# Altium footprint library pedals-capacitors-elec.PCBLIB: 24 footprints (part 2 of 2)
Each footprint in its own frame and in the unit in brackets; x right, y up, seen from the top. Pads: shape width x height; smd on the part's side, far side on the other; paste and mask are expansions set on the pad; w line width, h text height; cw(c..) or ccw(c..) is an arc to the next point about the centre after c.
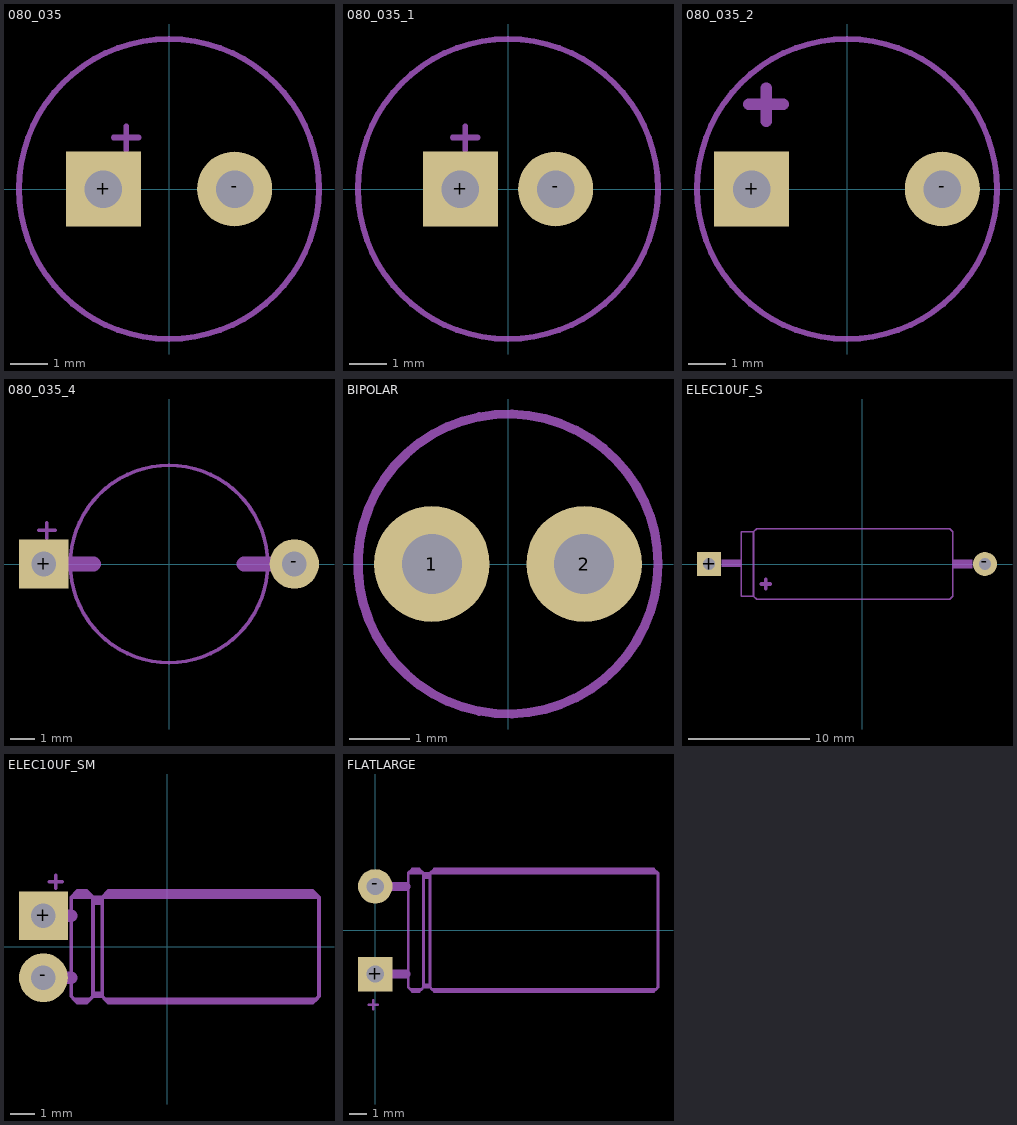
[diagram p1: the footprints below, top view; thin cyan lines are the x and y axes]

## 080_035 [mm]
pads (2):
  rect 2x2 hole 1: +(-1.75,0)
  round 2 hole 1: -(1.75,0)
Mechanical 2:
  circle w0.152: c0,0 r4
  lines w0.152: -1.473,1.372 -0.813,1.372 ; -1.143,1.041 -1.143,1.676

## 080_035_1 [mm]
pads (2):
  rect 2x2 hole 1: +(-1.27,0)
  round 2 hole 1: -(1.27,0)
Mechanical 2:
  circle w0.152: c0,0 r4
  lines w0.152: -1.473,1.372 -0.813,1.372 ; -1.143,1.041 -1.143,1.676

## 080_035_2 [mm]
pads (2):
  rect 2x2 hole 1: +(-2.54,0)
  round 2 hole 1: -(2.54,0)
Mechanical 2:
  circle w0.152: c0,0 r4
  lines w0.305: -2.616,2.261 -1.702,2.261 ; -2.159,1.803 -2.159,2.692

## 080_035_4 [mm]
pads (2):
  rect 2x2 hole 1: +(-5.08,0)
  round 2 hole 1: -(5.08,0)
Mechanical 2:
  circle w0.152: c0,0 r4
  lines w0.152: -5.283,1.372 -4.623,1.372 ; -4.953,1.041 -4.953,1.676
Mechanical 18:
  lines w0.61: -5.08,0 -3.066,0 ; 3.04,0 5.105,0

## BIPOLAR [mil]
pads (2):
  round 76 hole 39.37: 1(-50,0) 2(50,0)
Mechanical 2:
  circle w6: c0,0 r98.43

## ELEC10UF_S [mm]
pads (2):
  rect 2x2 hole 1: +(-12.7,0)
  round 2 hole 1: -(10.16,0)
Mechanical 2:
  rectangle: -11.684,-0.254 -10.033,0.381
  rectangle: 7.493,-0.381 9.144,0.381
  lines w0.152: -9.017,-2.667 -10.033,-2.667 -10.033,2.667 -9.017,2.667 ; -9.017,-2.667 -8.763,-2.921 7.239,-2.921 7.493,-2.667 7.493,2.667 7.239,2.921 -8.763,2.921 -9.017,2.667 ; -9.017,-2.667 -9.017,2.667
  lines w0.305: -8.382,-1.651 -7.62,-1.651 ; -8.001,-2.032 -8.001,-1.27

## ELEC10UF_SM [mm]
pads (2):
  rect 2x2 hole 1: +(-5.08,1.27)
  round 2 hole 1: -(-5.08,-1.27)
Mechanical 2:
  rectangle: -4.699,1.016 -3.937,1.524
  region: -3.937,-1.016 -4.699,-1.016 -4.699,-1.524 -3.937,-1.524
  lines w0.152: -4.826,2.667 -4.318,2.667 ; -4.572,2.413 -4.572,2.921 ; -3.302,-2.235 -3.683,-2.235 -3.683,-2.286 ; 5.969,-2.235 -2.413,-2.235 -2.413,-2.286 ; -3.937,2.032 -3.937,-2.032 -3.81,-2.159 ; -3.937,2.032 -3.683,2.286 -3.302,2.286 -3.048,2.032 ; -3.937,2.032 -3.048,2.032 ; -3.81,-2.159 -3.683,-2.286 ; -3.81,-2.159 -3.175,-2.159 ; -3.683,-2.286 -3.302,-2.286 -3.175,-2.159 ; -3.175,-2.159 -3.048,-2.032 ; -3.048,-2.032 -2.667,-2.032 ; -3.048,-2.032 -3.048,-1.981 ; -3.048,-1.981 -3.048,-1.905 ; -3.048,-1.981 -2.667,-1.981 ; -3.048,-1.905 -3.048,1.778 ; -3.048,-1.905 -2.667,-1.905 ; -3.048,1.778 -3.048,2.032 ; -3.048,1.778 -2.667,1.778 ; -3.048,2.032 -2.667,2.032 ; -2.667,-2.032 -2.54,-2.159 ; -2.667,-2.032 -2.667,-1.981 ; -2.667,-1.981 -2.667,-1.905 ; -2.667,-1.905 -2.667,1.778 ; -2.667,1.778 -2.667,2.032 ; -2.667,2.032 -2.413,2.286 5.969,2.286 6.223,2.032 ; -2.667,2.032 6.223,2.032 ; -2.54,-2.159 -2.413,-2.286 ; -2.54,-2.159 6.096,-2.159 ; -2.413,-2.286 5.969,-2.286 6.096,-2.159 ; 6.096,-2.159 6.223,-2.032 6.223,2.032
  lines w0.305: -3.683,2.159 -3.302,2.159 ; -2.921,1.905 -2.794,1.905 ; -2.413,2.159 5.969,2.159
  lines w0.508: -5.08,-1.27 -3.937,-1.27 ; -5.08,1.27 -3.937,1.27

## FLATLARGE [mm]
pads (2):
  rect 2x2 hole 1: +(0,-2.54)
  round 2 hole 1: -(0,2.54)
Mechanical 2:
  lines w0.152: -0.381,-4.318 0.127,-4.318 ; -0.127,-4.572 -0.127,-4.064 ; 2.54,-3.505 2.159,-3.505 2.159,-3.556 ; 16.129,-3.505 3.429,-3.505 3.429,-3.556 ; 1.905,3.302 1.905,-3.302 2.032,-3.429 ; 1.905,3.302 2.159,3.556 2.54,3.556 2.794,3.302 ; 1.905,3.302 2.794,3.302 ; 2.032,-3.429 2.159,-3.556 ; 2.032,-3.429 2.667,-3.429 ; 2.159,-3.556 2.54,-3.556 2.667,-3.429 ; 2.667,-3.429 2.794,-3.302 ; 2.794,-3.302 3.175,-3.302 ; 2.794,-3.302 2.794,-3.251 ; 2.794,-3.251 2.794,-3.175 ; 2.794,-3.251 3.175,-3.251 ; 2.794,-3.175 2.794,3.048 ; 2.794,-3.175 3.175,-3.175 ; 2.794,3.048 2.794,3.302 ; 2.794,3.048 3.175,3.048 ; 2.794,3.302 3.175,3.302 ; 3.175,-3.302 3.302,-3.429 ; 3.175,-3.302 3.175,-3.251 ; 3.175,-3.251 3.175,-3.175 ; 3.175,-3.175 3.175,3.048 ; 3.175,3.048 3.175,3.302 ; 3.175,3.302 3.429,3.556 16.129,3.556 16.383,3.302 ; 3.175,3.302 16.383,3.302 ; 3.302,-3.429 3.429,-3.556 ; 3.302,-3.429 16.256,-3.429 ; 3.429,-3.556 16.129,-3.556 16.256,-3.429 ; 16.256,-3.429 16.383,-3.302 16.383,3.302
  lines w0.305: 2.159,3.429 2.54,3.429 ; 2.921,3.175 3.048,3.175 ; 3.429,3.429 16.129,3.429
  lines w0.508: 0,-2.54 1.778,-2.54 ; 0,2.54 1.778,2.54